# Altium footprint library PCB.PcbLib: 24 footprints (part 2 of 2)
Each footprint in its own frame and in the unit in brackets; x right, y up, seen from the top. Pads: shape width x height; smd on the part's side, far side on the other; paste and mask are expansions set on the pad; w line width, h text height; cw(c..) or ccw(c..) is an arc to the next point about the centre after c.
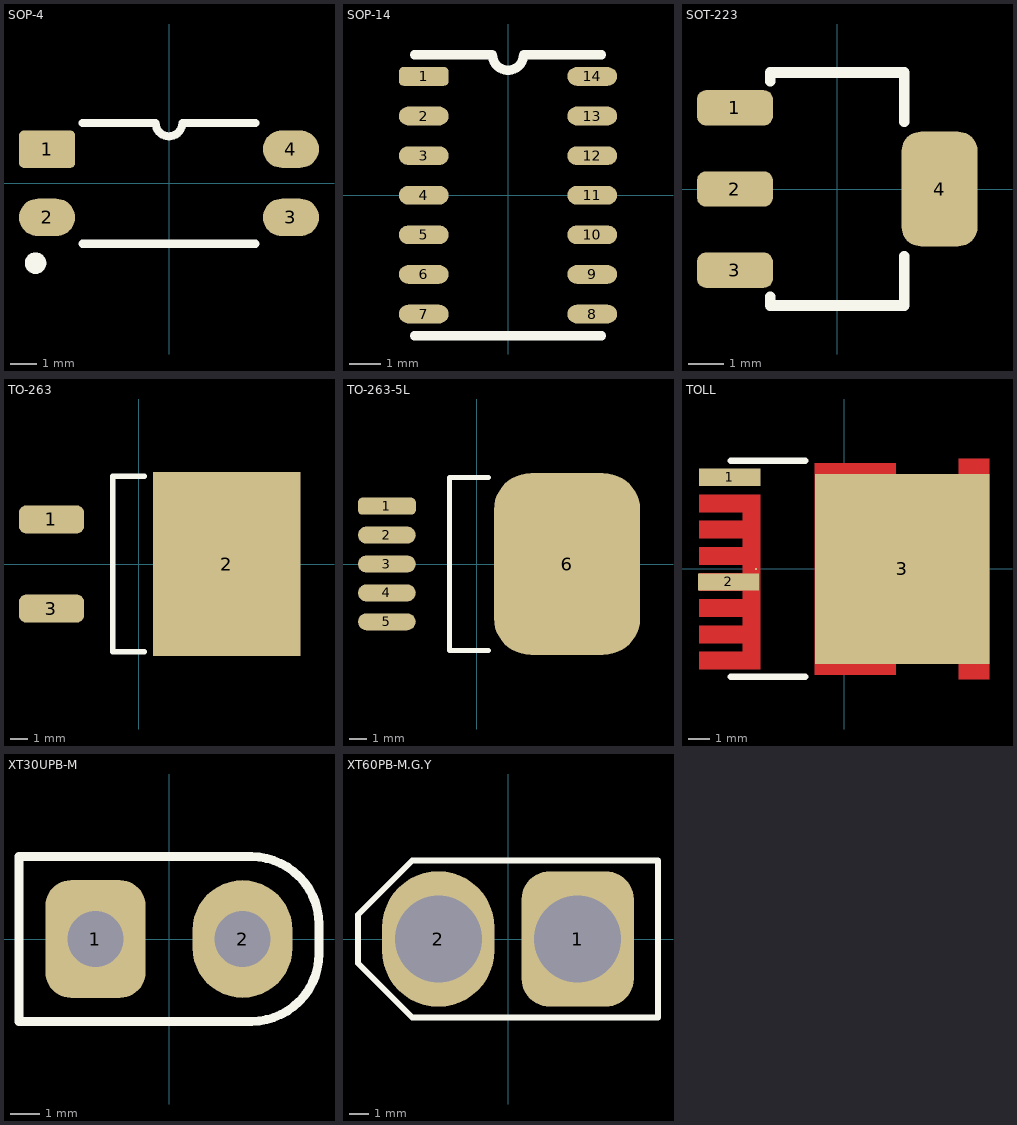
[diagram p1: the footprints below, top view; thin cyan lines are the x and y axes]

## SOP-4 [mm]
pads (4):
  rrect25% 2.09x1.39 smd: 1(-4.54,1.27)
  oval 2.09x1.39 smd: 2(-4.54,-1.27) 3(4.54,-1.27) 4(4.54,1.27)
Top Overlay:
  lines w0.3: -3.225,-2.25 3.225,-2.25 ; -3.225,2.25 -0.5,2.25 ccw(c0,2.25) 0.5,2.24 3.225,2.25
  lines w0.4: -4.969,-2.774 ccw(c-4.968,-2.974) -4.967,-2.774
3D body "VOT8024AB-T2.STEP": height 3.78, standoff -0.08, extent -5.08,-2.3 5.08,2.3

## SOP-14 [mm]
pads (14):
  rrect50% 1.6x0.6 smd: 1(-2.7,3.81)
  oval 1.6x0.6 smd: 2(-2.7,2.54) 3(-2.7,1.27) 4(-2.7,0) 5(-2.7,-1.27) 6(-2.7,-2.54) 7(-2.7,-3.81) 8(2.7,-3.81) 9(2.7,-2.54) 10(2.7,-1.27) 11(2.7,0) 12(2.7,1.27) 13(2.7,2.54) 14(2.7,3.81)
Top Overlay:
  lines w0.3: -3,-4.51 3,-4.51 ; -3,4.51 -0.5,4.51 ccw(c0,4.51) 0.5,4.51 3,4.51
3D body "User Library-SOP14.STEP": height 1.39, standoff 0, extent -3.119,-4.375 3.119,4.375

## SOT-223 [mm]
pads (4):
  rrect50% 2.15x1 smd: 1(-2.9,2.3) 2(-2.9,0) 3(-2.9,-2.3)
  rrect50% 2.15x3.25 smd: 4(2.9,0)
Top Overlay:
  lines w0.3: -1.9,-3.048 -1.9,-3.3 1.9,-3.3 1.9,-1.9 ; -1.9,3.048 -1.9,3.3 1.9,3.3 1.9,1.9
3D body "step_temp.STEP": height 1.8, standoff 0, extent -3.499,-3.25 3.499,3.25

## TO-263 [mm]
pads (3):
  rrect50% 3.7x1.6 smd mask+0.3: 1(-4.98,2.54) 3(-4.98,-2.54)
  rect 8.4x10.5 smd paste-5 mask+0.3: 2(5,0)
Top Overlay:
  lines w0.3: 0.3,-5 -1.5,-5 -1.5,5 0.3,5
Top Paste:
  region: 5.81,0.385 4.15,0.385 4.15,1.785 5.81,1.785
  region: 5.81,-1.785 4.15,-1.785 4.15,-0.385 5.81,-0.385
  region: 5.81,-3.955 4.15,-3.955 4.15,-2.555 5.81,-2.555
  region: 5.81,2.555 4.15,2.555 4.15,3.955 5.81,3.955
  region: 3.13,0.385 1.47,0.385 1.47,1.785 3.13,1.785
  region: 3.13,-1.785 1.47,-1.785 1.47,-0.385 3.13,-0.385
  region: 3.13,-3.955 1.47,-3.955 1.47,-2.555 3.13,-2.555
  region: 3.13,2.555 1.47,2.555 1.47,3.955 3.13,3.955
  region: 8.49,0.385 6.83,0.385 6.83,1.785 8.49,1.785
  region: 8.49,-1.785 6.83,-1.785 6.83,-0.385 8.49,-0.385
  region: 8.49,-3.955 6.83,-3.955 6.83,-2.555 8.49,-2.555
  region: 8.49,2.555 6.83,2.555 6.83,3.955 8.49,3.955
3D body "step_temp.STEP": height 4.83, standoff 0, extent -6.15,-5.03 9.09,5.03

## TO-263-5L [mm]
pads (6):
  rrect50% 3.4x1 smd paste-0.05 mask+0.15: 1(-5.3,3.4)
  oval 3.4x1 smd paste-0.05 mask+0.15: 2(-5.3,1.7) 3(-5.3,0) 4(-5.3,-1.7) 5(-5.3,-3.4)
  rrect50% 8.6x10.7 smd paste-0.05 mask+0.07: 6(5.3,0)
Top Overlay:
  lines w0.3: 0.68,-5.08 -1.605,-5.08 -1.605,5.08 0.68,5.08
3D body "step_temp.STEP": height 4.65, standoff -0.15, extent -6.175,-5.08 8.176,5.08

## TOLL [mm]
pads (5):
  rect 2.8x0.8 smd: 1(-5.25,4.2) 2(-5.3,-0.6)
  rect 0.1x0.1 smd paste-1 mask+0: 2(-4.05,0) 3(0,0)
  rect 8x8.7 smd: 3(2.65,0)
Top Layer:
  region: -3.85,-4.6 -6.65,-4.6 -6.65,-3.8 -4.65,-3.8 -4.65,-3.4 -6.65,-3.4 -6.65,-2.6 -4.65,-2.6 -4.65,-2.2 -6.65,-2.2 -6.65,-1.4 -4.65,-1.4 -4.65,-1 -6.65,-1 -6.65,-0.2 -4.65,-0.2 -4.65,0.2 -6.65,0.2 -6.65,1 -4.65,1 -4.65,1.4 -6.65,1.4 -6.65,2.2 -4.65,2.2 -4.65,2.6 -6.65,2.6 -6.65,3.4 -3.85,3.4
  region: 6.65,-5.05 5.25,-5.05 5.25,-4.35 2.35,-4.35 2.35,-4.85 -1.35,-4.85 -1.35,4.85 2.35,4.85 2.35,4.35 5.25,4.35 5.25,5.05 6.65,5.05
Top Overlay:
  lines w0.3: -5.2,-4.95 -1.8,-4.95 ; -5.2,4.95 -1.8,4.95
Top Paste:
  region: -3.85,2.6 -6.65,2.6 -6.65,3.4 -3.85,3.4
  region: -3.85,1.4 -6.65,1.4 -6.65,2.2 -3.85,2.2
  region: -3.85,0.2 -6.65,0.2 -6.65,1 -3.85,1
  region: -3.85,-1 -6.65,-1 -6.65,-0.2 -3.85,-0.2
  region: -3.85,-2.2 -6.65,-2.2 -6.65,-1.4 -3.85,-1.4
  region: -3.85,-3.4 -6.65,-3.4 -6.65,-2.6 -3.85,-2.6
  region: -3.85,-4.6 -6.65,-4.6 -6.65,-3.8 -3.85,-3.8
  region: 3.475,0.385 1.825,0.385 1.825,1.795 3.475,1.795
  region: 3.475,2.565 1.825,2.565 1.825,3.975 3.475,3.975
  region: 3.475,-1.795 1.825,-1.795 1.825,-0.385 3.475,-0.385
  region: 3.475,-3.975 1.825,-3.975 1.825,-2.565 3.475,-2.565
  region: 0.805,0.385 -0.845,0.385 -0.845,1.795 0.805,1.795
  region: 0.805,2.565 -0.845,2.565 -0.845,3.975 0.805,3.975
  region: 0.805,-1.795 -0.845,-1.795 -0.845,-0.385 0.805,-0.385
  region: 0.805,-3.975 -0.845,-3.975 -0.845,-2.565 0.805,-2.565
  region: 6.145,0.385 4.495,0.385 4.495,1.795 6.145,1.795
  region: 6.145,2.565 4.495,2.565 4.495,3.975 6.145,3.975
  region: 6.145,-1.795 4.495,-1.795 4.495,-0.385 6.145,-0.385
  region: 6.145,-3.975 4.495,-3.975 4.495,-2.565 6.145,-2.565
Top Solder:
  region: -3.75,-4.7 -6.75,-4.7 -6.75,-3.7 -4.75,-3.7 -4.75,-3.5 -6.75,-3.5 -6.75,-2.5 -4.75,-2.5 -4.75,-2.3 -6.75,-2.3 -6.75,-1.3 -4.75,-1.3 -4.75,-1.1 -6.75,-1.1 -6.75,-0.1 -4.75,-0.1 -4.75,0.1 -6.75,0.1 -6.75,1.1 -4.75,1.1 -4.75,1.3 -6.75,1.3 -6.75,2.3 -4.75,2.3 -4.75,2.5 -6.75,2.5 -6.75,3.5 -3.75,3.5
  region: 6.75,-5.15 5.15,-5.15 5.15,-4.45 2.45,-4.45 2.45,-4.95 -1.45,-4.95 -1.45,4.95 2.45,4.95 2.45,4.45 5.15,4.45 5.15,5.15 6.75,5.15
3D body "step_temp.STEP": height 2.31, standoff 0, extent -5.79,-4.95 5.89,4.95

## XT30UPB-M [mm]
pads (2):
  rrect50% 3.4x4 hole 1.9: 1(-2.5,0)
  oval 3.4x4 hole 1.9: 2(2.5,0)
Top Overlay:
  lines w0.3: -5.1,-2.8 -5.1,2.8 2.8,2.8 cw(c2.8,0.5) 5.1,0.5 5.1,-0.5 cw(c2.8,-0.5) 2.8,-2.8 -5.1,-2.8
3D body "Amass_XT30UPB-M.step": height 10.7, standoff -2, extent -5.1,-2.6 5.1,2.6

## XT60PB-M.G.Y [mm]
pads (2):
  rrect50% 5.8x7 hole 4.5 mask+0.5: 1(3.6,0)
  oval 5.8x7 hole 4.5 mask+0.5: 2(-3.6,0)
Top Overlay:
  lines w0.3: -7.75,-1.25 -4.95,-4.05 7.75,-4.05 7.75,4.05 -4.95,4.05 -7.75,1.25 -7.75,-1.25
3D body "PDB_XT60_PLUG[1].SLDPRT": height 16.1, standoff -1.89, extent -8,-4 8,4